# Altium schematic symbol library MyLibraryV2.SchLib: 572 symbols (part 8 of 11)
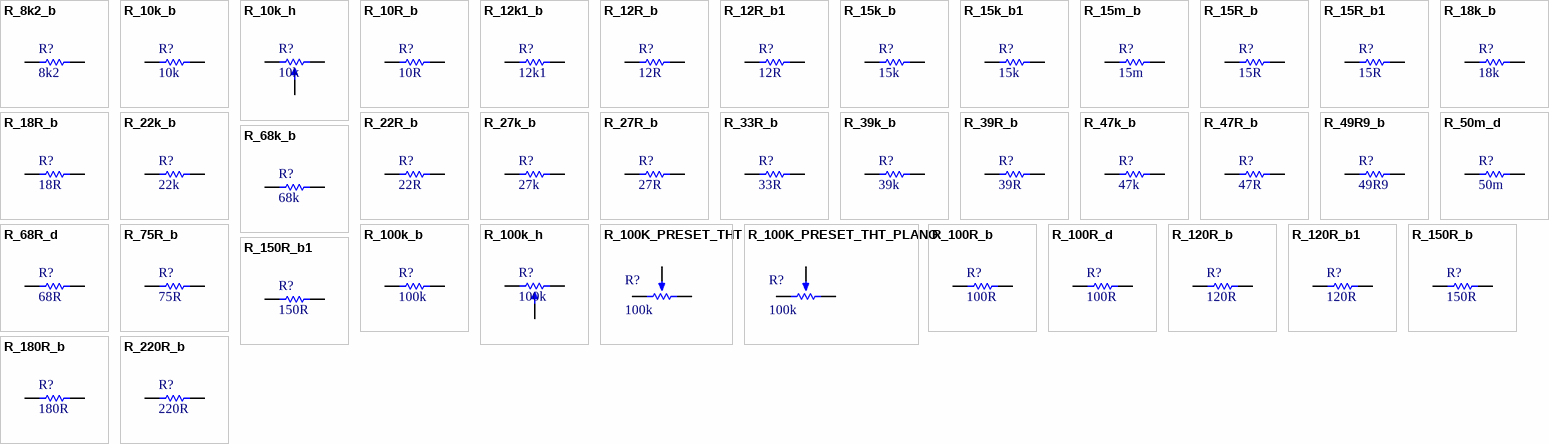
[diagram p23: symbols R_8k2_b to R_220R_b]

## R_27k_b
designator R?, comment 27k
Resistor SMD 0805; Manufacturer: Yageo; Manufacturer Part Number: RC0805FR-0727KL; Tolerance: 1%; Temperature Coefficient: 100ppm/°C; Power Rating: 125mW; Voltage Rating: 150V; Case/Package: 0805; Case Code (Metric): 2012; Case Code (Imperial): 0805; Min Operating Temperature: -55°C; Max Operating Temperature: 155°C; Resistor Type: Thick Film; Packaging: Tape and Reel; Package Quantity: 1; Number of Terminations: 2; Termination: SMD/SMT; Max Power Dissipation: 125mW; Features: Moisture Resistant; Series: RC; Construction: Rectangular; Resistance Tolerance: 1%; Technology: THICK FILM; Voltage Rating (AC): 150V; Length: 2mm; Width: 0.049inch; Height: 0.5mm; Depth: 1.25mm; RoHS Compliant: Yes; Reach SVHC Compliant: Unknown; Lead Free: 5697LeadFree; Military Standard: Not; ComponentLink1URL: https://datasheet.ciiva.com/11809/0900766b8106beab-11809381.pdf?src-supplier=Rs; ComponentLink1Description: https://datasheet.ciiva.com/11809/0900766b8106beab-11809381.pdf?src-supplier=Rs; ComponentLink2URL: https://datasheet.ciiva.com/2457/pyu-r-int-thick-7-2457987.pdf?src-supplier=Digikey; ComponentLink2Description: https://datasheet.ciiva.com/2457/pyu-r-int-thick-7-2457987.pdf?src-supplier=Digikey; ComponentLink3URL: https://datasheet.ciiva.com/2457/pyu-r-int-thick-7-2457988.pdf?src-supplier=Digikey; ComponentLink3Description: https://datasheet.ciiva.com/2457/pyu-r-int-thick-7-2457988.pdf?src-supplier=Digikey; ComponentLink4URL: https://datasheet.ciiva.com/2457/pyu-r-int-thick-7-2457986.pdf?src-supplier=Digikey; ComponentLink4Description: https://datasheet.ciiva.com/2457/pyu-r-int-thick-7-2457986.pdf?src-supplier=Digikey; ComponentLink5URL: https://datasheet.ciiva.com/7941/444164-7941750.pdf?src-supplier=Element14; ComponentLink5Description: https://datasheet.ciiva.com/7941/444164-7941750.pdf?src-supplier=Element14; ComponentLink6URL: https://datasheet.ciiva.com/7941/444164-7941751.pdf?src-supplier=Element14; ComponentLink6Description: https://datasheet.ciiva.com/7941/444164-7941751.pdf?src-supplier=Element14; Supplier 1: Digikey; Supplier Part Number 1: 311-27.0KCRCT-ND; RoHS: Yes; Category: Chip SMD Resistors; Stock 1: 74928; Pricing 1: 1=0,1, 10=0,025, 50=0,016, 100=0,0133, 500=0,00912, 1000=0,00787 (USD); Value: 27k
footprint R_0805_2012_a (Chip Resistor; Body 2.0 x 1.3 mm (LxW typ))
pins: 1, 2

## R_27R_b
designator R?, comment 27R
Resistor SMD 0805; Manufacturer: KOA Speer; Manufacturer Part Number: RK73H2ATTD27R0F; Power Rating: 125mW; Tolerance: 1%; Voltage Rating: 150V; Temperature Coefficient: 100ppm/°C; Case/Package: 0805; Case Code (Imperial): 0805; Case Code (Metric): 2012; Min Operating Temperature: -55°C; Max Operating Temperature: 155°C; Packaging: Tape and Reel; Package Quantity: 5000; Resistor Type: Thick Film; Termination: SMD/SMT; Series: RK73H; Construction: Rectangular; Resistance Tolerance: 1%; Length: 2mm; Width: 1.25mm; Height: 0.5mm; Depth: 1.25mm; Military Standard: Not; Lead Free: Lead Free; RoHS Compliant: Yes; Reach SVHC Compliant: Unknown; ComponentLink1URL: https://datasheet.ciiva.com/7866/549017-7866751.pdf?src-supplier=Element14; ComponentLink1Description: https://datasheet.ciiva.com/7866/549017-7866751.pdf?src-supplier=Element14; Supplier 1: Digikey; Supplier Part Number 1: 2019-RK73H2ATTD27R0FCT-ND; RoHS: Yes; Category: Chip SMD Resistors; Stock 1: 43182; Pricing 1: 1=0,1, 10=0,027, 50=0,0172, 100=0,0144, 500=0,00992, 1000=0,00858 (USD); Value: 27R
footprint R_0805_2012_a (Chip Resistor; Body 2.0 x 1.3 mm (LxW typ))
pins: 1, 2

## R_33R_b
designator R?, comment 33R
Resistor SMD 0805; Manufacturer: Stackpole Electronics; Manufacturer Part Number: RMCF0805FT33R0; Tolerance: 1%; Max Power Dissipation: 125mW; Temperature Coefficient: 100ppm/°C; Voltage Rating: 150V; Mounting Technology: Surface Mount; Case/Package: 0805; Case Code (Metric): 2012; Case Code (Imperial): 0805; Contact Plating: Tin,Matte; Min Operating Temperature: -55°C; Max Operating Temperature: 155°C; Packaging: Tape and Reel; Number of Terminations: 2; Features: Automotive AEC-Q200; Series: RMCF; Length: 0.079inch; Width: 0.049inch; Height: 0.026inch; Ratings: AEC-Q200; Radiation Hardening: No; RoHS Compliant: Yes; ComponentLink1URL: http://components.arrow.com/part/dataview/50498375S389572N1174?src-supplier=Arrow+Electronics; ComponentLink1Description: http://components.arrow.com/part/dataview/50498375S389572N1174?src-supplier=Arrow+Electronics; ComponentLink2URL: https://www.seielect.com/catalog/SEI-RMCF_RMCP.pdf?src-supplier=Avnet; ComponentLink2Description: https://www.seielect.com/catalog/SEI-RMCF_RMCP.pdf?src-supplier=Avnet; ComponentLink3URL: https://www.seielect.com/Catalog/SEI-RMCF_RMCP.pdf?src-supplier=Digikey; ComponentLink3Description: https://www.seielect.com/Catalog/SEI-RMCF_RMCP.pdf?src-supplier=Digikey; ComponentLink4URL: https://www.seielect.com/catalog/SEI-Packaging.pdf?src-supplier=Digikey; ComponentLink4Description: https://www.seielect.com/catalog/SEI-Packaging.pdf?src-supplier=Digikey; Supplier 1: Digikey; Supplier Part Number 1: RMCF0805FT33R0CT-ND; RoHS: Yes; Category: Chip SMD Resistors; Stock 1: 76142; Pricing 1: 1=0,1, 10=0,02, 50=0,0124, 100=0,0103, 500=0,007, 1000=0,00601 (USD); Value: 33R
footprint R_0805_2012_a (Chip Resistor; Body 2.0 x 1.3 mm (LxW typ))
pins: 1, 2

## R_39k_b
designator R?, comment 39k
(Modificar) Resistor SMD 0805; Value: 39k
footprint R_0805_2012_a (Chip Resistor; Body 2.0 x 1.3 mm (LxW typ))
pins: 1, 2

## R_39R_b
designator R?, comment 39R
Resistor SMD 0805; Manufacturer: Stackpole Electronics; Manufacturer Part Number: RMCF0805FT39R0; Tolerance: 1%; Max Power Dissipation: 125mW; Temperature Coefficient: 100ppm/°C; Voltage Rating: 150V; Mounting Technology: Surface Mount; Case/Package: 0805; Case Code (Metric): 2012; Case Code (Imperial): 0805; Contact Plating: Tin,Matte; Min Operating Temperature: -55°C; Max Operating Temperature: 155°C; Packaging: Tape and Reel; Number of Terminations: 2; Features: Automotive AEC-Q200; Series: RMCF; Ratings: AEC-Q200; Radiation Hardening: No; Lead Free: Lead Free; RoHS Compliant: Yes; ComponentLink1URL: https://www.seielect.com/catalog/SEI-Packaging.pdf?src-supplier=Digikey; ComponentLink1Description: https://www.seielect.com/catalog/SEI-Packaging.pdf?src-supplier=Digikey; ComponentLink2URL: https://www.seielect.com/catalog/SEI-RMCF_RMCP.pdf?src-supplier=Avnet; ComponentLink2Description: https://www.seielect.com/catalog/SEI-RMCF_RMCP.pdf?src-supplier=Avnet; ComponentLink3URL: https://www.seielect.com/Catalog/SEI-RMCF_RMCP.pdf?src-supplier=Digikey; ComponentLink3Description: https://www.seielect.com/Catalog/SEI-RMCF_RMCP.pdf?src-supplier=Digikey; Supplier 1: Digikey; Supplier Part Number 1: RMCF0805FT39R0CT-ND; RoHS: Yes; Category: Chip SMD Resistors; Stock 1: 103674; Pricing 1: 1=0,1, 10=0,02, 50=0,0124, 100=0,0103, 500=0,007, 1000=0,00601 (USD); Value: 39R
footprint R_0805_2012_a (Chip Resistor; Body 2.0 x 1.3 mm (LxW typ))
pins: 1, 2

## R_47k_b
designator R?, comment 47k
Resistor SMD 0805; Manufacturer: Stackpole Electronics; Manufacturer Part Number: RMCF0805FT47K0; Power Rating: 125mW; Tolerance: 1%; Temperature Coefficient: 100ppm/°C; Mounting Technology: Surface Mount; Case/Package: 0805; Case Code (Metric): 2012; Case Code (Imperial): 0805; Contact Plating: Tin,Matte; Min Operating Temperature: -55°C; Max Operating Temperature: 155°C; Packaging: Tape and Reel; Number of Terminations: 2; Max Power Dissipation: 125mW; Features: Automotive AEC-Q200; Series: RMCF; Length: 0.079inch; Width: 0.049inch; Height: 0.026inch; Ratings: AEC-Q200; Radiation Hardening: No; Lead Free: Lead Free; RoHS Compliant: Yes; ComponentLink1URL: https://www.seielect.com/catalog/SEI-RMCF_RMCP.pdf?src-supplier=Avnet; ComponentLink1Description: https://www.seielect.com/catalog/SEI-RMCF_RMCP.pdf?src-supplier=Avnet; ComponentLink2URL: https://www.seielect.com/catalog/SEI-Packaging.pdf?src-supplier=Digikey; ComponentLink2Description: https://www.seielect.com/catalog/SEI-Packaging.pdf?src-supplier=Digikey; ComponentLink3URL: http://www.seielect.com/catalog/sei-rmc.pdf?src-supplier=Future+Electronics; ComponentLink3Description: http://www.seielect.com/catalog/sei-rmc.pdf?src-supplier=Future+Electronics; ComponentLink4URL: https://datasheet.octopart.com/RMCF0805FT47K0-Stackpole-Electronics-datasheet-11547379.pdf?src-supplier=Future+Electronics; ComponentLink4Description: https://datasheet.octopart.com/RMCF0805FT47K0-Stackpole-Electronics-datasheet-11547379.pdf?src-supplier=Future+Electronics; Supplier 1: Digikey; Supplier Part Number 1: RMCF0805FT47K0CT-ND; RoHS: Yes; Category: Chip SMD Resistors; Stock 1: 332168; Pricing 1: 1=0,1, 10=0,02, 50=0,0124, 100=0,0103, 500=0,007, 1000=0,00601 (USD); Value: 47k
footprint R_0805_2012_a (Chip Resistor; Body 2.0 x 1.3 mm (LxW typ))
pins: 1, 2

## R_47R_b
designator R?, comment 47R
Resistor SMD 0805; Manufacturer: Stackpole Electronics; Manufacturer Part Number: RMCF0805FT47R0; Tolerance: 1%; Max Power Dissipation: 125mW; Temperature Coefficient: 100ppm/°C; Voltage Rating: 150V; Mounting Technology: Surface Mount; Case/Package: 0805; Case Code (Metric): 2012; Case Code (Imperial): 0805; Contact Plating: Tin,Matte; Min Operating Temperature: -55°C; Max Operating Temperature: 155°C; Packaging: Tape and Reel; Number of Terminations: 2; Features: Automotive AEC-Q200; Series: RMCF; Length: 0.079inch; Width: 0.049inch; Height: 0.026inch; Ratings: AEC-Q200; Radiation Hardening: No; Lead Free: Lead Free; RoHS Compliant: Yes; ComponentLink1URL: http://components.arrow.com/part/dataview/50866092S797656N1174?src-supplier=Arrow+Electronics; ComponentLink1Description: http://components.arrow.com/part/dataview/50866092S797656N1174?src-supplier=Arrow+Electronics; ComponentLink2URL: https://www.seielect.com/catalog/SEI-Packaging.pdf?src-supplier=Digikey; ComponentLink2Description: https://www.seielect.com/catalog/SEI-Packaging.pdf?src-supplier=Digikey; ComponentLink3URL: https://www.seielect.com/Catalog/SEI-RMCF_RMCP.pdf?src-supplier=Digikey; ComponentLink3Description: https://www.seielect.com/Catalog/SEI-RMCF_RMCP.pdf?src-supplier=Digikey; ComponentLink4URL: https://www.seielect.com/catalog/SEI-RMCF_RMCP.pdf?src-supplier=Avnet; ComponentLink4Description: https://www.seielect.com/catalog/SEI-RMCF_RMCP.pdf?src-supplier=Avnet; Supplier 1: Digikey; Supplier Part Number 1: RMCF0805FT47R0CT-ND; RoHS: Yes; Category: Chip SMD Resistors; Stock 1: 95881; Pricing 1: 1=0,1, 10=0,02, 50=0,0124, 100=0,0103, 500=0,007, 1000=0,00601 (USD); Value: 47R
footprint R_0805_2012_a (Chip Resistor; Body 2.0 x 1.3 mm (LxW typ))
pins: 1, 2

## R_49R9_b
designator R?, comment 49R9
Resistor SMD 0805; Manufacturer: Bourns; Manufacturer Part Number: CR0805-FX-49R9ELF; Voltage Rating: 150V; Tolerance: 1%; Power Rating: 125mW; Temperature Coefficient: 100ppm/°C; Mounting Technology: Surface Mount; Case/Package: 0805; Pins: 2; Case Code (Imperial): 0805; Case Code (Metric): 2012; Contact Plating: Tin; Min Operating Temperature: -55°C; Max Operating Temperature: 155°C; Packaging: Tape and Reel; Package Quantity: 5000; Resistor Type: Thick Film; Termination: SMD/SMT; Voltage Rating (DC): 150V; Features: Moisture Resistant; Series: CR0805; Max Power Dissipation: 125mW; Number of Terminations: 2; Resistance Tolerance: 1%; Length: 2mm; Width: 1.25mm; Height: 0.5mm; Thickness: 508um; Radiation Hardening: No; Reach SVHC Compliant: No; RoHS Compliant: Yes; ComponentLink1URL: https://datasheet.ciiva.com/9121/chpreztr-9121260.pdf?src-supplier=Avnet; ComponentLink1Description: https://datasheet.ciiva.com/9121/chpreztr-9121260.pdf?src-supplier=Avnet; ComponentLink2URL: https://datasheet.ciiva.com/22713/691949-22713261.pdf?src-supplier=Element14; ComponentLink2Description: https://datasheet.ciiva.com/22713/691949-22713261.pdf?src-supplier=Element14; ComponentLink3URL: https://datasheet.ciiva.com/46383/1791942-46383768.pdf?src-supplier=Element14; ComponentLink3Description: https://datasheet.ciiva.com/46383/1791942-46383768.pdf?src-supplier=Element14; ComponentLink4URL: https://datasheet.ciiva.com/7986/1902866-7986181.pdf?src-supplier=Element14; ComponentLink4Description: https://datasheet.ciiva.com/7986/1902866-7986181.pdf?src-supplier=Element14; ComponentLink5URL: https://datasheet.ciiva.com/49516/775463-49516261.pdf?src-supplier=Jameco; ComponentLink5Description: https://datasheet.ciiva.com/49516/775463-49516261.pdf?src-supplier=Jameco; Supplier 1: Digikey; Supplier Part Number 1: CR0805-FX-49R9ELFCT-ND; RoHS: Yes; Category: Chip SMD Resistors; Stock 1: 190556; Pricing 1: 1=0,1, 10=0,021, 50=0,0132, 100=0,011, 500=0,00744, 1000=0,00639 (USD); Value: 49R9
footprint R_0805_2012_a (Chip Resistor; Body 2.0 x 1.3 mm (LxW typ))
pins: 1, 2

## R_50m_d
designator R?, comment 50m
Resistor SMD 2512; Manufacturer: Bourns; Manufacturer Part Number: CRA2512-FZ-R050ELF; Power Rating: 3W; Temperature Coefficient: 50ppm/°C; Tolerance: 1%; Case/Package: 348Case; Pins: 2NUMBER; Min Operating Temperature: -55°C; Max Operating Temperature: 170°C; Packaging: 13Packaging; Width: 3.2mm; Height: 900um; ComponentLink1URL: https://www.bourns.com/docs/product-datasheets/cra.pdf?src-supplier=Digikey; ComponentLink1Description: https://www.bourns.com/docs/product-datasheets/cra.pdf?src-supplier=Digikey; ComponentLink2URL: https://datasheet.octopart.com/CRA2512-FZ-R050ELF-Bourns-datasheet-15983344.pdf?src-supplier=Element14; ComponentLink2Description: https://datasheet.octopart.com/CRA2512-FZ-R050ELF-Bourns-datasheet-15983344.pdf?src-supplier=Element14; ComponentLink3URL: https://datasheet.octopart.com/CRA2512-FZ-R050ELF-Bourns-datasheet-26822206.pdf?src-supplier=Newark; ComponentLink3Description: https://datasheet.octopart.com/CRA2512-FZ-R050ELF-Bourns-datasheet-26822206.pdf?src-supplier=Newark; ComponentLink4URL: https://datasheet.octopart.com/CRA2512-FZ-R050ELF-Bourns-datasheet-21630808.pdf?src-supplier=Electro+Sonic; ComponentLink4Description: https://datasheet.octopart.com/CRA2512-FZ-R050ELF-Bourns-datasheet-21630808.pdf?src-supplier=Electro+Sonic; Supplier 1: Digikey; Supplier Part Number 1: CRA2512-FZ-R050ELFCT-ND; RoHS: No; Category: Chip SMD Resistors; Stock 1: 86042; Pricing 1: 1=0,64, 10=0,428, 25=0,3552, 50=0,3004, 100=0,2249, 250=0,20028, 500=0,16388, 1000=0,12746 (USD); Value: 50m
footprint R_2512_6432_a
pins: 1, 2

## R_68k_b
designator R?, comment 68k
Resistor SMD 0805; Value: 68k
footprint R_0805_2012_a (Chip Resistor; Body 2.0 x 1.3 mm (LxW typ))
pins: 1, 2

## R_68R_d
designator R?, comment 68R
Resistor SMD 2512; Manufacturer: Stackpole Electronics; Manufacturer Part Number: RMCF2512FT68R0; Tolerance: 1%; Power Rating: 1W; Temperature Coefficient: 100ppm/°C; Mounting Technology: Surface Mount; Case/Package: 2512; Contact Plating: Tin,Matte; Min Operating Temperature: -55°C; Max Operating Temperature: 155°C; Packaging: Tape and Reel; Radiation Hardening: No; RoHS Compliant: Yes; ComponentLink1URL: https://www.seielect.com/catalog/sei-rmcf_rmcp.pdf?src-supplier=Digikey; ComponentLink1Description: https://www.seielect.com/catalog/sei-rmcf_rmcp.pdf?src-supplier=Digikey; ComponentLink2URL: https://www.seielect.com/catalog/SEI-RMCF_RMCP.pdf?src-supplier=Avnet; ComponentLink2Description: https://www.seielect.com/catalog/SEI-RMCF_RMCP.pdf?src-supplier=Avnet; Supplier 1: Digikey; Supplier Part Number 1: RMCF2512FT68R0CT-ND; RoHS: Yes; Category: Chip SMD Resistors; Stock 1: 34467; Pricing 1: 1=0,28, 10=0,148, 50=0,1016, 100=0,0874, 500=0,06414, 1000=0,05681 (USD); Value: 68R
footprint R_2512_6432_a
pins: 1, 2

## R_75R_b
designator R?, comment 75R
Resistor SMD 0805; Manufacturer: Stackpole Electronics; Manufacturer Part Number: RMCF0805FT75R0; Tolerance: 1%; Max Power Dissipation: 125mW; Temperature Coefficient: 100ppm/°C; Mounting Technology: Surface Mount; Case/Package: 0805; Case Code (Metric): 2012; Case Code (Imperial): 0805; Contact Plating: Tin,Matte; Min Operating Temperature: -55°C; Max Operating Temperature: 155°C; Packaging: Tape and Reel; Number of Terminations: 2; Features: Automotive AEC-Q200; Series: RMCF; Construction: Rectangular; Length: 2mm; Width: 0.049inch; Height: 0.026inch; Depth: 1.25mm; Ratings: AEC-Q200; Radiation Hardening: No; Military Standard: Not; Lead Free: Lead Free; RoHS Compliant: Yes; ComponentLink1URL: http://components.arrow.com/part/dataview/44988443S7171845N1174?src-supplier=Arrow+Electronics; ComponentLink1Description: http://components.arrow.com/part/dataview/44988443S7171845N1174?src-supplier=Arrow+Electronics; ComponentLink2URL: https://www.seielect.com/catalog/sei-packaging.pdf?src-supplier=Digikey; ComponentLink2Description: https://www.seielect.com/catalog/sei-packaging.pdf?src-supplier=Digikey; ComponentLink3URL: https://www.seielect.com/Catalog/SEI-RMCF_RMCP.pdf?src-supplier=Digikey; ComponentLink3Description: https://www.seielect.com/Catalog/SEI-RMCF_RMCP.pdf?src-supplier=Digikey; ComponentLink4URL: https://www.seielect.com/catalog/SEI-RMCF_RMCP.pdf?src-supplier=Avnet; ComponentLink4Description: https://www.seielect.com/catalog/SEI-RMCF_RMCP.pdf?src-supplier=Avnet; ComponentLink5URL: https://www.verical.com/server-webapp/html/getDatasheet?partID=363158&src-supplier=Verical; ComponentLink5Description: https://www.verical.com/server-webapp/html/getDatasheet?partID=363158&src-supplier=Verical; ComponentLink6URL: https://datasheet.octopart.com/RMCF0805FT75R0-Stackpole-Electronics-datasheet-12534581.pdf?src-supplier=Future+Electronics; ComponentLink6Description: https://datasheet.octopart.com/RMCF0805FT75R0-Stackpole-Electronics-datasheet-12534581.pdf?src-supplier=Future+Electronics; ComponentLink7URL: https://datasheet.octopart.com/RMCF0805FT75R0-Stackpole-Electronics-datasheet-155966809.pdf?src-supplier=Master+Electronics; ComponentLink7Description: https://datasheet.octopart.com/RMCF0805FT75R0-Stackpole-Electronics-datasheet-155966809.pdf?src-supplier=Master+Electronics; Supplier 1: Digikey; Supplier Part Number 1: RMCF0805FT75R0CT-ND; RoHS: Yes; Category: Chip SMD Resistors; Stock 1: 65607; Pricing 1: 1=0,1, 10=0,02, 50=0,0124, 100=0,0103, 500=0,007, 1000=0,00601 (USD); Value: 75R
footprint R_0805_2012_a (Chip Resistor; Body 2.0 x 1.3 mm (LxW typ))
pins: 1, 2

## R_100k_b
designator R?, comment 100k
Resistor SMD 0805; Manufacturer: Stackpole Electronics; Manufacturer Part Number: RMCF0805FT100K; Power Rating: 125mW; Tolerance: 1%; Temperature Coefficient: 100ppm/°C; Working Voltage: 150V; Mounting Technology: Surface Mount; Case/Package: 0805; Case Code (Metric): 2012; Case Code (Imperial): 0805; Contact Plating: Tin,Matte; Min Operating Temperature: -55°C; Max Operating Temperature: 155°C; Packaging: Tape and Reel; Number of Terminations: 2; Max Power Dissipation: 125mW; Features: Automotive AEC-Q200; Series: RMCF; Construction: Rectangular; Technology: THICK FILM; Voltage Rating: 150V; Length: 2mm; Width: 0.049inch; Height: 0.026inch; Depth: 1.25mm; Ratings: AEC-Q200; Radiation Hardening: No; Military Standard: Not; Lead Free: Lead Free; RoHS Compliant: Yes; ComponentLink1URL: http://components.arrow.com/part/dataview/50568053S7005095N1174?src-supplier=Arrow+Electronics; ComponentLink1Description: http://components.arrow.com/part/dataview/50568053S7005095N1174?src-supplier=Arrow+Electronics; ComponentLink2URL: https://datasheet.octopart.com/RMCF0805FT100K-Stackpole-Electronics-datasheet-11547379.pdf?src-supplier=Future+Electronics; ComponentLink2Description: https://datasheet.octopart.com/RMCF0805FT100K-Stackpole-Electronics-datasheet-11547379.pdf?src-supplier=Future+Electronics; ComponentLink3URL: https://www.seielect.com/catalog/SEI-RMCF_RMCP.pdf?src-supplier=Avnet; ComponentLink3Description: https://www.seielect.com/catalog/SEI-RMCF_RMCP.pdf?src-supplier=Avnet; ComponentLink4URL: http://www.onlinecomponents.com/productFiles/mf-SEI/sei-rmcp.pdf?src-supplier=Onlinecomponents.com; ComponentLink4Description: http://www.onlinecomponents.com/productFiles/mf-SEI/sei-rmcp.pdf?src-supplier=Onlinecomponents.com; ComponentLink5URL: http://www.seielect.com/catalog/sei-rmc.pdf?src-supplier=Future+Electronics; ComponentLink5Description: http://www.seielect.com/catalog/sei-rmc.pdf?src-supplier=Future+Electronics; ComponentLink6URL: https://www.verical.com/server-webapp/html/getDatasheet?partID=360692&src-supplier=Verical; ComponentLink6Description: https://www.verical.com/server-webapp/html/getDatasheet?partID=360692&src-supplier=Verical; ComponentLink7URL: https://www.seielect.com/catalog/SEI-Packaging.pdf?src-supplier=Digikey; ComponentLink7Description: https://www.seielect.com/catalog/SEI-Packaging.pdf?src-supplier=Digikey; ComponentLink8URL: https://datasheet.octopart.com/RMCF0805FT100K-Stackpole-Electronics-datasheet-155966809.pdf?src-supplier=Master+Electronics; ComponentLink8Description: https://datasheet.octopart.com/RMCF0805FT100K-Stackpole-Electronics-datasheet-155966809.pdf?src-supplier=Master+Electronics; Supplier 1: Digikey; Supplier Part Number 1: RMCF0805FT100KCT-ND; RoHS: Yes; Category: Chip SMD Resistors; Stock 1: 1954715; Pricing 1: 1=0,1, 10=0,02, 50=0,0124, 100=0,0103, 500=0,007, 1000=0,00601 (USD); Value: 100k
footprint R_0805_2012_a (Chip Resistor; Body 2.0 x 1.3 mm (LxW typ))
pins: 1, 2

## R_100k_h
designator R?, comment 100k
Resistor SMD Trimmer; Manufacturer: Bourns; Manufacturer Part Number: PVG5A104C03R00; Tolerance: 10%; Number of Turns: 11; Temperature Coefficient: 150ppm/°C; Max Power Dissipation: 250mW; Mounting Technology: Surface Mount; Min Operating Temperature: -55°C; Max Operating Temperature: 125°C; Resistor Type: Cermet; Series: PVG5; Packaging: Cut Tape; Height: 0.201inch; RoHS Compliant: Yes; ComponentLink1URL: http://www.mouser.com/ds/2/54/vg5-907351.pdf?src-supplier=Mouser; ComponentLink1Description: http://www.mouser.com/ds/2/54/vg5-907351.pdf?src-supplier=Mouser; ComponentLink2URL: https://www.bourns.com/docs/Product-Datasheets/pvg5.pdf?src-supplier=Digikey; ComponentLink2Description: https://www.bourns.com/docs/Product-Datasheets/pvg5.pdf?src-supplier=Digikey; ComponentLink3URL: http://www.bourns.com/docs/Product-Datasheets/pvg5.pdf?src-supplier=Digikey; ComponentLink3Description: http://www.bourns.com/docs/Product-Datasheets/pvg5.pdf?src-supplier=Digikey; Supplier 1: Mouser; Supplier Part Number 1: 81-PVG5A104C03R00; RoHS: Yes; Category: Variable Resistors and Potentiometers; Stock 1: 2059; Pricing 1: 1=2,93, 10=2,23, 50=2,23, 100=2,05, 1000=1,6, 10000=1,33 (USD); Value: 100k
footprint R_Trimmer SMD
pins: 1, 2, 3

## R_100K_PRESET_THT
designator R?, comment 100k
Value: 100k
footprint R_THT_VR5
pins: 1, 2, 3

## R_100K_PRESET_THT_PLANO
designator R?, comment 100k
Value: 100k
footprint R_THT_VR5 - PLANO
pins: 1, 2, 3

## R_100R_b
designator R?, comment 100R
Resistor SMD 0805; Manufacturer: Vishay Dale; Manufacturer Part Number: CRCW0805100RFKEA; Tolerance: 1%; Power Rating: 125mW; Voltage Rating: 150V; Temperature Coefficient: 100ppm/°C; Case/Package: 0805; Pins: 2NUMBER; Weight: 0.000194oz; Case Code (Metric): 2012; Case Code (Imperial): 0805; Contact Plating: Tin; Min Operating Temperature: -55°C; Max Operating Temperature: 155°C; Package Quantity: 10; Packaging: Tape and Reel; Resistor Type: Thick Film; Number of Terminations: 2; Termination: SMD/SMT; Max Power Dissipation: 125mW; Features: Automotive AEC-Q200; Series: CRCW; Technology: THICK FILM; Construction: Rectangular; Resistance Tolerance: 1%; Voltage Rating (DC): 150V; Length: 2mm; Width: 0.049inch; Height: 0.45mm; Depth: 1.25mm; Radiation Hardening: No; RoHS Compliant: Yes; Lead Free: 5697LeadFree; Military Standard: Not; Reach SVHC Compliant: Unknown; ComponentLink1URL: https://datasheet.ciiva.com/2495/dcrcwe3-2495842.pdf?src-supplier=Digikey; ComponentLink1Description: https://datasheet.ciiva.com/2495/dcrcwe3-2495842.pdf?src-supplier=Digikey; ComponentLink2URL: https://datasheet.ciiva.com/16760/70201119-16760940.pdf?src-supplier=Allied+Electronics; ComponentLink2Description: https://datasheet.ciiva.com/16760/70201119-16760940.pdf?src-supplier=Allied+Electronics; ComponentLink3URL: https://datasheet.ciiva.com/16777/70201119-16777129.pdf?src-supplier=Allied+Electronics; ComponentLink3Description: https://datasheet.ciiva.com/16777/70201119-16777129.pdf?src-supplier=Allied+Electronics; ComponentLink4URL: https://datasheet.ciiva.com/5546/dcrcwe3-109170-5546700.pdf?src-supplier=Mouser; ComponentLink4Description: https://datasheet.ciiva.com/5546/dcrcwe3-109170-5546700.pdf?src-supplier=Mouser; Supplier 1: Mouser; Supplier Part Number 1: 71-CRCW0805-100-E3; RoHS: Yes; Category: Chip SMD Resistors; Stock 1: 173839; Pricing 1: 1=0,1, 10=0,025, 50=0,025, 100=0,015, 1000=0,012, 10000=0,008 (USD); Value: 100R
footprint R_0805_2012_a (Chip Resistor; Body 2.0 x 1.3 mm (LxW typ))
pins: 1, 2

## R_100R_d
designator R?, comment 100R
Resistor SMD 2512; Manufacturer: Vishay Dale; Manufacturer Part Number: CRCW2512100RFKEG; Tolerance: 1%; Power Rating: 1W; Voltage Rating: 500V; Temperature Coefficient: 100ppm/°C; Case/Package: 2512; Pins: 2NUMBER; Weight: 0.001429oz; Case Code (Metric): 6432; Case Code (Imperial): 2512; Contact Plating: Tin; Min Operating Temperature: -55°C; Max Operating Temperature: 155°C; Packaging: Tape and Reel; Package Quantity: 10; Resistor Type: Thick Film; Number of Terminations: 2; Termination: SMD/SMT; Max Power Dissipation: 1W; Features: Automotive AEC-Q200; Series: CRCW; Resistance Tolerance: 1%; Voltage Rating (DC): 500V; Technology: THICK FILM; Construction: Rectangular; Length: 6.3mm; Width: 0.124inch; Height: 0.6mm; Depth: 3.15mm; Radiation Hardening: No; RoHS Compliant: Yes; Reach SVHC Compliant: Unknown; Lead Free: 5697LeadFree; Military Standard: Not; ComponentLink1URL: https://datasheet.ciiva.com/11812/0900766b80d98bd1-11812468.pdf?src-supplier=Rs; ComponentLink1Description: https://datasheet.ciiva.com/11812/0900766b80d98bd1-11812468.pdf?src-supplier=Rs; ComponentLink2URL: https://datasheet.ciiva.com/8979/dcrcwe3-8979893.pdf?src-supplier=Avnet; ComponentLink2Description: https://datasheet.ciiva.com/8979/dcrcwe3-8979893.pdf?src-supplier=Avnet; ComponentLink3URL: https://datasheet.ciiva.com/16755/70201119-16755641.pdf?src-supplier=Allied+Electronics; ComponentLink3Description: https://datasheet.ciiva.com/16755/70201119-16755641.pdf?src-supplier=Allied+Electronics; ComponentLink4URL: https://datasheet.ciiva.com/2527/dcrcwe3-2527858.pdf?src-supplier=Digikey; ComponentLink4Description: https://datasheet.ciiva.com/2527/dcrcwe3-2527858.pdf?src-supplier=Digikey; ComponentLink5URL: https://datasheet.ciiva.com/2527/dcrcwe3-2527859.pdf?src-supplier=Digikey; ComponentLink5Description: https://datasheet.ciiva.com/2527/dcrcwe3-2527859.pdf?src-supplier=Digikey; ComponentLink6URL: https://datasheet.ciiva.com/2527/dcrcwe3-2527860.pdf?src-supplier=Digikey; ComponentLink6Description: https://datasheet.ciiva.com/2527/dcrcwe3-2527860.pdf?src-supplier=Digikey; ComponentLink7URL: https://datasheet.ciiva.com/16770/70201119-16770632.pdf?src-supplier=Allied+Electronics; ComponentLink7Description: https://datasheet.ciiva.com/16770/70201119-16770632.pdf?src-supplier=Allied+Electronics; Supplier 1: Mouser; Supplier Part Number 1: 71-CRCW2512-100-E3; RoHS: Yes; Category: Chip SMD Resistors; Stock 1: 100725; Pricing 1: 1=0,32, 10=0,121, 50=0,121, 100=0,077, 1000=0,068, 10000=0,045 (USD); Value: 100R
footprint R_2512_6432_a
pins: 1, 2

## R_120R_b
designator R?, comment 120R
Resistor SMD 0805; Manufacturer: Stackpole Electronics; Manufacturer Part Number: RMCF0805FT120R; Tolerance: 1%; Max Power Dissipation: 125mW; Temperature Coefficient: 100ppm/°C; Mounting Technology: Surface Mount; Case/Package: 0805; Case Code (Metric): 2012; Case Code (Imperial): 0805; Contact Plating: Tin,Matte; Min Operating Temperature: -55°C; Max Operating Temperature: 155°C; Packaging: Tape and Reel; Number of Terminations: 2; Features: Automotive AEC-Q200; Series: RMCF; Length: 0.079inch; Width: 0.049inch; Height: 0.026inch; Radiation Hardening: No; RoHS Compliant: Yes; ComponentLink1URL: https://www.seielect.com/catalog/SEI-Packaging.pdf?src-supplier=Digikey; ComponentLink1Description: https://www.seielect.com/catalog/SEI-Packaging.pdf?src-supplier=Digikey; ComponentLink2URL: https://www.seielect.com/catalog/SEI-RMCF_RMCP.pdf?src-supplier=Avnet; ComponentLink2Description: https://www.seielect.com/catalog/SEI-RMCF_RMCP.pdf?src-supplier=Avnet; Supplier 1: Digikey; Supplier Part Number 1: 738-RMCF0805FT120RCT-ND; RoHS: Yes; Category: Chip SMD Resistors; Stock 1: 986618; Pricing 1: 1=0,1, 10=0,02, 50=0,0124, 100=0,0103, 500=0,007, 1000=0,00601 (USD); Value: 120R
footprint R_0805_2012_a (Chip Resistor; Body 2.0 x 1.3 mm (LxW typ))
pins: 1, 2

## R_120R_b1
designator R?, comment 120R
Resistor SMD 0805; Manufacturer: Stackpole Electronics; Manufacturer Part Number: RMCF0805FT120R; Tolerance: 1%; Max Power Dissipation: 125mW; Temperature Coefficient: 100ppm/°C; Mounting Technology: Surface Mount; Case/Package: 0805; Case Code (Metric): 2012; Case Code (Imperial): 0805; Contact Plating: Tin,Matte; Min Operating Temperature: -55°C; Max Operating Temperature: 155°C; Packaging: Tape and Reel; Number of Terminations: 2; Features: Automotive AEC-Q200; Series: RMCF; Length: 0.079inch; Width: 0.049inch; Height: 0.026inch; Radiation Hardening: No; RoHS Compliant: Yes; ComponentLink1URL: https://www.seielect.com/catalog/SEI-Packaging.pdf?src-supplier=Digikey; ComponentLink1Description: https://www.seielect.com/catalog/SEI-Packaging.pdf?src-supplier=Digikey; ComponentLink2URL: https://www.seielect.com/catalog/SEI-RMCF_RMCP.pdf?src-supplier=Avnet; ComponentLink2Description: https://www.seielect.com/catalog/SEI-RMCF_RMCP.pdf?src-supplier=Avnet; Supplier 1: Digikey; Supplier Part Number 1: 738-RMCF0805FT120RCT-ND; RoHS: Yes; Category: Chip SMD Resistors; Stock 1: 986618; Pricing 1: 1=0,1, 10=0,02, 50=0,0124, 100=0,0103, 500=0,007, 1000=0,00601 (USD); Value: 120R
footprint R_0805_2012_a (Chip Resistor; Body 2.0 x 1.3 mm (LxW typ))
pins: 1, 2

## R_150R_b
designator R?, comment 150R
Resistor SMD 0805; Manufacturer: Stackpole Electronics; Manufacturer Part Number: RMCF0805FT150R; Tolerance: 1%; Max Power Dissipation: 125mW; Temperature Coefficient: 100ppm/°C; Voltage Rating: 150V; Mounting Technology: Surface Mount; Case/Package: 0805; Case Code (Metric): 2012; Case Code (Imperial): 0805; Contact Plating: Tin,Matte; Min Operating Temperature: -55°C; Max Operating Temperature: 155°C; Packaging: Tape and Reel; Number of Terminations: 2; Features: Automotive AEC-Q200; Series: RMCF; Construction: Rectangular; Length: 0.079inch; Width: 0.049inch; Height: 0.026inch; Depth: 1.25mm; Ratings: AEC-Q200; Radiation Hardening: No; Military Standard: Not; RoHS Compliant: Yes; ComponentLink1URL: http://components.arrow.com/part/dataview/44988385S7171757N1174?src-supplier=Arrow+Electronics; ComponentLink1Description: http://components.arrow.com/part/dataview/44988385S7171757N1174?src-supplier=Arrow+Electronics; ComponentLink2URL: https://www.seielect.com/catalog/SEI-Packaging.pdf?src-supplier=Digikey; ComponentLink2Description: https://www.seielect.com/catalog/SEI-Packaging.pdf?src-supplier=Digikey; ComponentLink3URL: https://www.seielect.com/catalog/SEI-RMCF_RMCP.pdf?src-supplier=Avnet; ComponentLink3Description: https://www.seielect.com/catalog/SEI-RMCF_RMCP.pdf?src-supplier=Avnet; ComponentLink4URL: https://www.verical.com/server-webapp/html/getDatasheet?partID=375102&src-supplier=Verical; ComponentLink4Description: https://www.verical.com/server-webapp/html/getDatasheet?partID=375102&src-supplier=Verical; Supplier 1: Digikey; Supplier Part Number 1: RMCF0805FT150RCT-ND; RoHS: Yes; Category: Chip SMD Resistors; Stock 1: 198477; Pricing 1: 1=0,1, 10=0,02, 50=0,0124, 100=0,0103, 500=0,007, 1000=0,00601 (USD); Value: 150R
footprint R_0805_2012_a (Chip Resistor; Body 2.0 x 1.3 mm (LxW typ))
pins: 1, 2

## R_150R_b1
designator R?, comment 150R
Resistor SMD 0805; Manufacturer: Bourns; Manufacturer Part Number: CR0805-FX-1500ELF; Tolerance: 1%; Power Rating: 125mW; Voltage Rating: 150V; Temperature Coefficient: 100ppm/°C; Mounting Technology: Surface Mount; Case/Package: 0805; Case Code (Metric): 2012; Case Code (Imperial): 0805; Contact Plating: Tin; Min Operating Temperature: -55°C; Max Operating Temperature: 155°C; Package Quantity: 5000; Packaging: Tape and Reel; Number of Terminations: 2; Termination: SMD/SMT; Max Power Dissipation: 125mW; Features: Moisture Resistant; Series: CR0805; Construction: Rectangular; Voltage Rating (DC): 150V; Length: 2mm; Width: 1.25mm; Height: 0.024inch; Depth: 1.25mm; Thickness: 508um; Radiation Hardening: No; Military Standard: Not; RoHS Compliant: Yes; ComponentLink1URL: https://datasheet.ciiva.com/5544/chpreztr-5544998.pdf?src-supplier=Mouser; ComponentLink1Description: https://datasheet.ciiva.com/5544/chpreztr-5544998.pdf?src-supplier=Mouser; ComponentLink2URL: https://datasheet.ciiva.com/18608/chpreztr-18608559.pdf?src-supplier=Digikey; ComponentLink2Description: https://datasheet.ciiva.com/18608/chpreztr-18608559.pdf?src-supplier=Digikey; ComponentLink3URL: https://datasheet.ciiva.com/18608/chpreztr-18608511.pdf?src-supplier=Digikey; ComponentLink3Description: https://datasheet.ciiva.com/18608/chpreztr-18608511.pdf?src-supplier=Digikey; ComponentLink4URL: https://datasheet.ciiva.com/9120/chpreztr-9120476.pdf?src-supplier=Avnet; ComponentLink4Description: https://datasheet.ciiva.com/9120/chpreztr-9120476.pdf?src-supplier=Avnet; ComponentLink5URL: https://datasheet.ciiva.com/15159/getdatasheetpartid-37751-15159463.pdf?src-supplier=Verical; ComponentLink5Description: https://datasheet.ciiva.com/15159/getdatasheetpartid-37751-15159463.pdf?src-supplier=Verical; Supplier 1: Digikey; Supplier Part Number 1: CR0805-FX-1500ELFCT-ND; RoHS: Yes; Category: Chip SMD Resistors; Stock 1: 90570; Pricing 1: 1=0,1, 10=0,021, 50=0,0132, 100=0,011, 500=0,00744, 1000=0,00639 (USD); Value: 150R
footprint R_0805_2012_a (Chip Resistor; Body 2.0 x 1.3 mm (LxW typ))
pins: 1, 2

## R_180R_b
designator R?, comment 180R
Resistor SMD 0805; Manufacturer: Stackpole Electronics; Manufacturer Part Number: RMCF0805FT180R; Tolerance: 1%; Max Power Dissipation: 125mW; Temperature Coefficient: 100ppm/°C; Voltage Rating: 150V; Mounting Technology: Surface Mount; Case/Package: 0805; Case Code (Metric): 2012; Case Code (Imperial): 0805; Contact Plating: Tin,Matte; Min Operating Temperature: -55°C; Max Operating Temperature: 155°C; Packaging: Tape and Reel; Number of Terminations: 2; Features: Automotive AEC-Q200; Series: RMCF; Ratings: AEC-Q200; Radiation Hardening: No; RoHS Compliant: Yes; ComponentLink1URL: http://components.arrow.com/part/dataview/40963397S7671621N1174?src-supplier=Arrow+Electronics; ComponentLink1Description: http://components.arrow.com/part/dataview/40963397S7671621N1174?src-supplier=Arrow+Electronics; ComponentLink2URL: https://www.seielect.com/catalog/SEI-RMCF_RMCP.pdf?src-supplier=Avnet; ComponentLink2Description: https://www.seielect.com/catalog/SEI-RMCF_RMCP.pdf?src-supplier=Avnet; ComponentLink3URL: https://www.seielect.com/Catalog/SEI-RMCF_RMCP.pdf?src-supplier=Digikey; ComponentLink3Description: https://www.seielect.com/Catalog/SEI-RMCF_RMCP.pdf?src-supplier=Digikey; ComponentLink4URL: https://www.seielect.com/catalog/SEI-Packaging.pdf?src-supplier=Digikey; ComponentLink4Description: https://www.seielect.com/catalog/SEI-Packaging.pdf?src-supplier=Digikey; Supplier 1: Digikey; Supplier Part Number 1: RMCF0805FT180RCT-ND; RoHS: Yes; Category: Chip SMD Resistors; Stock 1: 99380; Pricing 1: 1=0,1, 10=0,02, 50=0,0124, 100=0,0103, 500=0,007, 1000=0,00601 (USD); Value: 180R
footprint R_0805_2012_a (Chip Resistor; Body 2.0 x 1.3 mm (LxW typ))
pins: 1, 2

## R_220R_b
designator R?, comment 220R
Resistor SMD 0805; Manufacturer: Bourns; Manufacturer Part Number: CR0805-FX-2200ELF; Tolerance: 1%; Power Rating: 125mW; Voltage Rating: 150V; Temperature Coefficient: 100ppm/°C; Mounting Technology: Surface Mount; Case/Package: 0805; Case Code (Metric): 2012; Case Code (Imperial): 0805; Contact Plating: Tin; Min Operating Temperature: -55°C; Max Operating Temperature: 155°C; Package Quantity: 5000; Packaging: Tape and Reel; Number of Terminations: 2; Termination: SMD/SMT; Max Power Dissipation: 125mW; Features: Moisture Resistant; Series: CR0805; Length: 2mm; Width: 1.25mm; Height: 0.5mm; Thickness: 508um; Radiation Hardening: No; RoHS Compliant: Yes; ComponentLink1URL: https://datasheet.ciiva.com/5540/chpreztr-5540846.pdf?src-supplier=Mouser; ComponentLink1Description: https://datasheet.ciiva.com/5540/chpreztr-5540846.pdf?src-supplier=Mouser; Supplier 1: Digikey; Supplier Part Number 1: CR0805-FX-2200ELFCT-ND; RoHS: Yes; Category: Chip SMD Resistors; Stock 1: 162372; Pricing 1: 1=0,1, 10=0,021, 50=0,0132, 100=0,011, 500=0,00744, 1000=0,00639 (USD); Value: 220R
footprint R_0805_2012_a (Chip Resistor; Body 2.0 x 1.3 mm (LxW typ))
pins: 1, 2

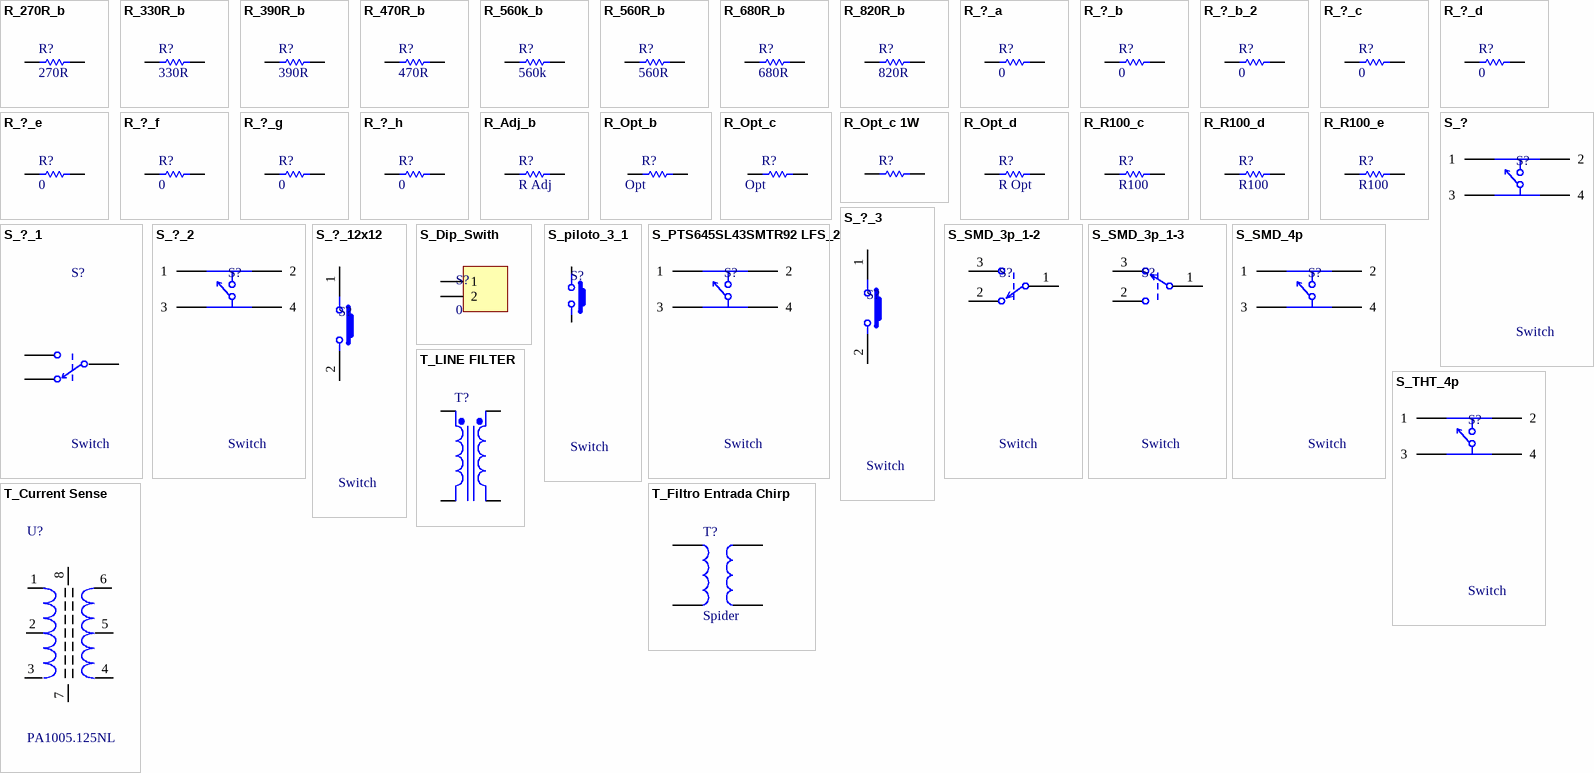
[diagram p10: symbols R_270R_b to T_LINE FILTER]

## R_270R_b
designator R?, comment 270R
Resistor SMD 0805; Manufacturer: Stackpole Electronics; Manufacturer Part Number: RMCF0805FT270R; Tolerance: 1%; Max Power Dissipation: 125mW; Temperature Coefficient: 100ppm/°C; Mounting Technology: Surface Mount; Case/Package: 0805; Case Code (Metric): 2012; Case Code (Imperial): 0805; Contact Plating: Tin,Matte; Min Operating Temperature: -55°C; Max Operating Temperature: 155°C; Packaging: Tape and Reel; Number of Terminations: 2; Features: Automotive AEC-Q200; Series: RMCF; Length: 0.079inch; Width: 0.049inch; Height: 0.026inch; Ratings: AEC-Q200; Radiation Hardening: No; Lead Free: Lead Free; RoHS Compliant: Yes; ComponentLink1URL: http://components.arrow.com/part/dataview/46946852S9226928N1174?src-supplier=Arrow+Electronics; ComponentLink1Description: http://components.arrow.com/part/dataview/46946852S9226928N1174?src-supplier=Arrow+Electronics; ComponentLink2URL: https://www.seielect.com/catalog/sei-rmcf_rmcp.pdf?src-supplier=Digikey; ComponentLink2Description: https://www.seielect.com/catalog/sei-rmcf_rmcp.pdf?src-supplier=Digikey; ComponentLink3URL: https://www.seielect.com/catalog/SEI-Packaging.pdf?src-supplier=Digikey; ComponentLink3Description: https://www.seielect.com/catalog/SEI-Packaging.pdf?src-supplier=Digikey; ComponentLink4URL: https://www.seielect.com/catalog/SEI-RMCF_RMCP.pdf?src-supplier=Avnet; ComponentLink4Description: https://www.seielect.com/catalog/SEI-RMCF_RMCP.pdf?src-supplier=Avnet; Supplier 1: Digikey; Supplier Part Number 1: RMCF0805FT270RCT-ND; RoHS: Yes; Category: Chip SMD Resistors; Stock 1: 67992; Pricing 1: 1=0,1, 10=0,02, 50=0,0124, 100=0,0103, 500=0,007, 1000=0,00601 (USD); Value: 270R
footprint R_0805_2012_a (Chip Resistor; Body 2.0 x 1.3 mm (LxW typ))
pins: 1, 2

## R_330R_b
designator R?, comment 330R
Resistor SMD 0805; Manufacturer: Stackpole Electronics; Manufacturer Part Number: RMCF0805FT330R; Tolerance: 1%; Max Power Dissipation: 125mW; Temperature Coefficient: 100ppm/°C; Mounting Technology: Surface Mount; Case/Package: 0805; Case Code (Metric): 2012; Case Code (Imperial): 0805; Contact Plating: Tin,Matte; Min Operating Temperature: -55°C; Max Operating Temperature: 155°C; Packaging: Tape and Reel; Number of Terminations: 2; Features: Automotive AEC-Q200; Series: RMCF; Construction: Rectangular; Length: 0.079inch; Width: 0.049inch; Height: 0.026inch; Depth: 1.25mm; Ratings: AEC-Q200; Radiation Hardening: No; Military Standard: Not; Lead Free: Lead Free; RoHS Compliant: Yes; ComponentLink1URL: http://components.arrow.com/part/dataview/40963487S9848862N1174?src-supplier=Arrow+Electronics; ComponentLink1Description: http://components.arrow.com/part/dataview/40963487S9848862N1174?src-supplier=Arrow+Electronics; ComponentLink2URL: https://www.seielect.com/catalog/SEI-RMCF_RMCP.pdf?src-supplier=Avnet; ComponentLink2Description: https://www.seielect.com/catalog/SEI-RMCF_RMCP.pdf?src-supplier=Avnet; ComponentLink3URL: https://www.seielect.com/catalog/sei-rmcf_rmcp.pdf?src-supplier=Digikey; ComponentLink3Description: https://www.seielect.com/catalog/sei-rmcf_rmcp.pdf?src-supplier=Digikey; ComponentLink4URL: https://www.seielect.com/catalog/SEI-Packaging.pdf?src-supplier=Digikey; ComponentLink4Description: https://www.seielect.com/catalog/SEI-Packaging.pdf?src-supplier=Digikey; ComponentLink5URL: https://datasheet.octopart.com/RMCF0805FT330R-Stackpole-Electronics-datasheet-12534581.pdf?src-supplier=Future+Electronics; ComponentLink5Description: https://datasheet.octopart.com/RMCF0805FT330R-Stackpole-Electronics-datasheet-12534581.pdf?src-supplier=Future+Electronics; ComponentLink6URL: https://www.verical.com/server-webapp/html/getDatasheet?partID=559884&src-supplier=Verical; ComponentLink6Description: https://www.verical.com/server-webapp/html/getDatasheet?partID=559884&src-supplier=Verical; Supplier 1: Digikey; Supplier Part Number 1: RMCF0805FT330RCT-ND; RoHS: Yes; Category: Chip SMD Resistors; Stock 1: 549430; Pricing 1: 1=0,1, 10=0,02, 50=0,0124, 100=0,0103, 500=0,007, 1000=0,00601 (USD); Value: 330R
footprint R_0805_2012_a (Chip Resistor; Body 2.0 x 1.3 mm (LxW typ))
pins: 1, 2

## R_390R_b
designator R?, comment 390R
Resistor SMD 0805; Manufacturer: Stackpole Electronics; Manufacturer Part Number: RMCF0805FT390R; Tolerance: 1%; Max Power Dissipation: 125mW; Temperature Coefficient: 100ppm/°C; Mounting Technology: Surface Mount; Case/Package: 0805; Case Code (Metric): 2012; Case Code (Imperial): 0805; Contact Plating: Tin,Matte; Min Operating Temperature: -55°C; Max Operating Temperature: 155°C; Packaging: Tape and Reel; Number of Terminations: 2; Features: Automotive AEC-Q200; Series: RMCF; Ratings: AEC-Q200; Radiation Hardening: No; RoHS Compliant: Yes; ComponentLink1URL: https://www.seielect.com/catalog/SEI-RMCF_RMCP.pdf?src-supplier=Avnet; ComponentLink1Description: https://www.seielect.com/catalog/SEI-RMCF_RMCP.pdf?src-supplier=Avnet; ComponentLink2URL: https://www.seielect.com/Catalog/SEI-RMCF_RMCP.pdf?src-supplier=Digikey; ComponentLink2Description: https://www.seielect.com/Catalog/SEI-RMCF_RMCP.pdf?src-supplier=Digikey; ComponentLink3URL: https://www.seielect.com/catalog/SEI-Packaging.pdf?src-supplier=Digikey; ComponentLink3Description: https://www.seielect.com/catalog/SEI-Packaging.pdf?src-supplier=Digikey; Supplier 1: Digikey; Supplier Part Number 1: RMCF0805FT390RCT-ND; RoHS: Yes; Category: Chip SMD Resistors; Stock 1: 36800; Pricing 1: 1=0,1, 10=0,02, 50=0,0124, 100=0,0103, 500=0,007, 1000=0,00601 (USD); Value: 390R
footprint R_0805_2012_a (Chip Resistor; Body 2.0 x 1.3 mm (LxW typ))
pins: 1, 2

## R_470R_b
designator R?, comment 470R
Resistor SMD 0805; Manufacturer: Bourns; Manufacturer Part Number: CR0805-FX-4700ELF; Tolerance: 1%; Power Rating: 125mW; Voltage Rating: 150V; Temperature Coefficient: 100ppm/°C; Mounting Technology: Surface Mount; Case/Package: 0805; Case Code (Imperial): 0805; Case Code (Metric): 2012; Contact Plating: Tin; Min Operating Temperature: -55°C; Max Operating Temperature: 155°C; Packaging: Tape and Reel; Package Quantity: 5000; Termination: SMD/SMT; Resistor Type: Thick Film; Number of Terminations: 2; Max Power Dissipation: 125mW; Voltage Rating (DC): 150V; Features: Moisture Resistant; Series: CR0805; Resistance Tolerance: 1%; Length: 2mm; Width: 1.25mm; Height: 0.5mm; Thickness: 508um; Radiation Hardening: No; Reach SVHC Compliant: No; RoHS Compliant: Yes; ComponentLink1URL: https://datasheet.ciiva.com/46394/1791942-46394373.pdf?src-supplier=Element14; ComponentLink1Description: https://datasheet.ciiva.com/46394/1791942-46394373.pdf?src-supplier=Element14; ComponentLink2URL: https://datasheet.ciiva.com/18594/chpreztr-18594776.pdf?src-supplier=Digikey; ComponentLink2Description: https://datasheet.ciiva.com/18594/chpreztr-18594776.pdf?src-supplier=Digikey; ComponentLink3URL: https://datasheet.ciiva.com/18594/chpreztr-18594777.pdf?src-supplier=Digikey; ComponentLink3Description: https://datasheet.ciiva.com/18594/chpreztr-18594777.pdf?src-supplier=Digikey; ComponentLink4URL: https://datasheet.ciiva.com/18594/chpreztr-18594778.pdf?src-supplier=Digikey; ComponentLink4Description: https://datasheet.ciiva.com/18594/chpreztr-18594778.pdf?src-supplier=Digikey; ComponentLink5URL: https://datasheet.ciiva.com/9119/chpreztr-9119675.pdf?src-supplier=Avnet; ComponentLink5Description: https://datasheet.ciiva.com/9119/chpreztr-9119675.pdf?src-supplier=Avnet; Supplier 1: Digikey; Supplier Part Number 1: CR0805-FX-4700ELFCT-ND; RoHS: Yes; Category: Chip SMD Resistors; Stock 1: 119033; Pricing 1: 1=0,1, 10=0,021, 50=0,0132, 100=0,011, 500=0,00744, 1000=0,00639 (USD); Value: 470R
footprint R_0805_2012_a (Chip Resistor; Body 2.0 x 1.3 mm (LxW typ))
pins: 1, 2

## R_560k_b
designator R?, comment 560k
Resistor SMD 0805; Value: 560k
footprint R_0805_2012_a (Chip Resistor; Body 2.0 x 1.3 mm (LxW typ))
pins: 1, 2

## R_560R_b
designator R?, comment 560R
Resistor SMD 0805; Manufacturer: Stackpole Electronics; Manufacturer Part Number: RMCF0805FT560R; Tolerance: 1%; Max Power Dissipation: 125mW; Temperature Coefficient: 100ppm/°C; Mounting Technology: Surface Mount; Case/Package: 0805; Case Code (Metric): 2012; Case Code (Imperial): 0805; Contact Plating: Tin,Matte; Min Operating Temperature: -55°C; Max Operating Temperature: 155°C; Packaging: Tape and Reel; Number of Terminations: 2; Features: Automotive AEC-Q200; Series: RMCF; Length: 0.079inch; Width: 0.049inch; Height: 0.026inch; Ratings: AEC-Q200; Radiation Hardening: No; Lead Free: Lead Free; RoHS Compliant: Yes; ComponentLink1URL: http://components.arrow.com/part/dataview/50867808S150813N1174?src-supplier=Arrow+Electronics; ComponentLink1Description: http://components.arrow.com/part/dataview/50867808S150813N1174?src-supplier=Arrow+Electronics; ComponentLink2URL: https://www.seielect.com/catalog/SEI-RMCF_RMCP.pdf?src-supplier=Avnet; ComponentLink2Description: https://www.seielect.com/catalog/SEI-RMCF_RMCP.pdf?src-supplier=Avnet; ComponentLink3URL: https://www.seielect.com/Catalog/SEI-RMCF_RMCP.pdf?src-supplier=Digikey; ComponentLink3Description: https://www.seielect.com/Catalog/SEI-RMCF_RMCP.pdf?src-supplier=Digikey; ComponentLink4URL: https://www.seielect.com/catalog/SEI-Packaging.pdf?src-supplier=Digikey; ComponentLink4Description: https://www.seielect.com/catalog/SEI-Packaging.pdf?src-supplier=Digikey; Supplier 1: Digikey; Supplier Part Number 1: RMCF0805FT560RCT-ND; RoHS: Yes; Category: Chip SMD Resistors; Stock 1: 128473; Pricing 1: 1=0,1, 10=0,02, 50=0,0124, 100=0,0103, 500=0,007, 1000=0,00601 (USD); Value: 560R
footprint R_0805_2012_a (Chip Resistor; Body 2.0 x 1.3 mm (LxW typ))
pins: 1, 2

## R_680R_b
designator R?, comment 680R
Resistor SMD 0805; Manufacturer: Stackpole Electronics; Manufacturer Part Number: RMCF0805FT680R; Tolerance: 1%; Max Power Dissipation: 125mW; Temperature Coefficient: 100ppm/°C; Voltage Rating: 150V; Mounting Technology: Surface Mount; Case/Package: 0805; Case Code (Metric): 2012; Case Code (Imperial): 0805; Contact Plating: Tin,Matte; Min Operating Temperature: -55°C; Max Operating Temperature: 155°C; Packaging: Tape and Reel; Number of Terminations: 2; Features: Automotive AEC-Q200; Series: RMCF; Ratings: AEC-Q200; Radiation Hardening: No; RoHS Compliant: Yes; ComponentLink1URL: http://components.arrow.com/part/dataview/40963601S9477768N1174?src-supplier=Arrow+Electronics; ComponentLink1Description: http://components.arrow.com/part/dataview/40963601S9477768N1174?src-supplier=Arrow+Electronics; ComponentLink2URL: https://www.seielect.com/catalog/sei-packaging.pdf?src-supplier=Digikey; ComponentLink2Description: https://www.seielect.com/catalog/sei-packaging.pdf?src-supplier=Digikey; ComponentLink3URL: https://www.seielect.com/catalog/SEI-RMCF_RMCP.pdf?src-supplier=Avnet; ComponentLink3Description: https://www.seielect.com/catalog/SEI-RMCF_RMCP.pdf?src-supplier=Avnet; Supplier 1: Digikey; Supplier Part Number 1: RMCF0805FT680RCT-ND; RoHS: Yes; Category: Chip SMD Resistors; Stock 1: 377866; Pricing 1: 1=0,1, 10=0,02, 50=0,0124, 100=0,0103, 500=0,007, 1000=0,00601 (USD); Value: 680R
footprint R_0805_2012_a (Chip Resistor; Body 2.0 x 1.3 mm (LxW typ))
pins: 1, 2

## R_820R_b
designator R?, comment 820R
Resistor SMD 0805; Manufacturer: Stackpole Electronics; Manufacturer Part Number: RMCF0805FT820R; Tolerance: 1%; Max Power Dissipation: 125mW; Temperature Coefficient: 100ppm/°C; Voltage Rating: 150V; Mounting Technology: Surface Mount; Case/Package: 0805; Case Code (Metric): 2012; Case Code (Imperial): 0805; Contact Plating: Tin,Matte; Min Operating Temperature: -55°C; Max Operating Temperature: 155°C; Packaging: Tape and Reel; Number of Terminations: 2; Features: Automotive AEC-Q200; Series: RMCF; Ratings: AEC-Q200; Radiation Hardening: No; Lead Free: Lead Free; RoHS Compliant: Yes; ComponentLink1URL: https://www.seielect.com/catalog/sei-rmcf_rmcp.pdf?src-supplier=Digikey; ComponentLink1Description: https://www.seielect.com/catalog/sei-rmcf_rmcp.pdf?src-supplier=Digikey; ComponentLink2URL: https://www.seielect.com/catalog/SEI-Packaging.pdf?src-supplier=Digikey; ComponentLink2Description: https://www.seielect.com/catalog/SEI-Packaging.pdf?src-supplier=Digikey; ComponentLink3URL: https://www.seielect.com/catalog/SEI-RMCF_RMCP.pdf?src-supplier=Avnet; ComponentLink3Description: https://www.seielect.com/catalog/SEI-RMCF_RMCP.pdf?src-supplier=Avnet; Supplier 1: Digikey; Supplier Part Number 1: RMCF0805FT820RCT-ND; RoHS: Yes; Category: Chip SMD Resistors; Stock 1: 104611; Pricing 1: 1=0,1, 10=0,02, 50=0,0124, 100=0,0103, 500=0,007, 1000=0,00601 (USD); Value: 820R
footprint R_0805_2012_a (Chip Resistor; Body 2.0 x 1.3 mm (LxW typ))
pins: 1, 2

## R_?_a
designator R?, comment 0
(Generico) Resistor SMD 0603; Value: 0
footprint R_0603_1608_a (Chip Resistor; Body 1.6 x 0.8 mm (LxW typ))
pins: 1, 2

## R_?_b
designator R?, comment 0
(Generico)  Resistor SMD 0805; Value: 0
footprint R_0805_2012_a (Chip Resistor; Body 2.0 x 1.3 mm (LxW typ))
pins: 1, 2